# Altium schematic symbol library IC. Amplifier.SchLib: 1 symbol
Pins are listed as number, name and electrical type; pins without a type are passive.

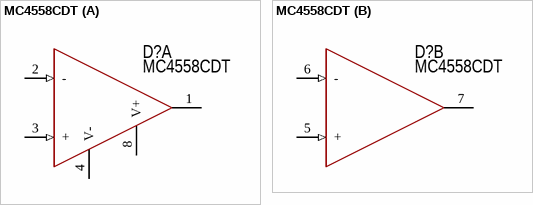
[diagram p0: symbol MC4558CDT]

## MC4558CDT
designator D?  PartNumber: MC4558CDT
OP amplifier; Manufacturer: ST Microelectronics; ValueManufacturerPartNumber: IC op amplifier, -, 5.5 MHz, ±2...20V, 0...+70°C, SO-8; Supply: ±2...20V; GainBandwidth: 5.5 MHz; HelpURL: https://www.digikey.com/product-detail/en/texas-instruments/OPA2337EA-3K/296-26252-1-ND/2254915; Package: SO-8; ComponentType: IC op amplifier; Temperature: 0...+70°C; OutputType: -
footprint 8-SOIC (pitch 1.27 mm)
part A pins: 1 OUTA, 2 - (in), 3 + (in), 4 V- (power), 8 V+ (power)
part B pins: 5 + (in), 6 - (in), 7 OUTB (power)